# EAGLE library part TD521D485 (library TD521D485)
Interface Circuit Source: Datasheet
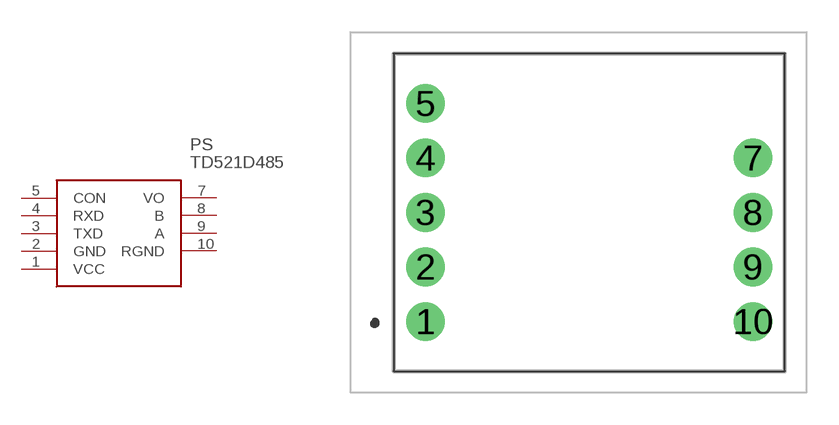
[diagram p0: symbol with the pads of TD521D485; footprint TD521D485]

Designator prefix PS

## TD521D485 (Description: Interface Circuit; Height: 8.1mm; Manufacturer_Name: Mornsun Power; Manufacturer_Part_Number: TD521D485)  [TD521D485]
1  VCC
2  GND
3  TXD
4  RXD
5  CON
7  VO
8  B
9  A
10  RGND

## Footprint TD521D485 (pad centres in mm)
TD521D485-1
drill 1.2 pad 1.8: 1 0,0; 2 0,2.54; 3 0,5.08; 4 0,7.62; 5 0,10.16; 7 15.24,7.62; 8 15.24,5.08; 9 15.24,2.54; 10 15.24,0